# Altium footprint library EC_meter.PcbLib: 9 footprints
Each footprint in its own frame and in the unit in brackets; x right, y up, seen from the top. Pads: shape width x height; smd on the part's side, far side on the other; paste and mask are expansions set on the pad; w line width, h text height; cw(c..) or ccw(c..) is an arc to the next point about the centre after c.
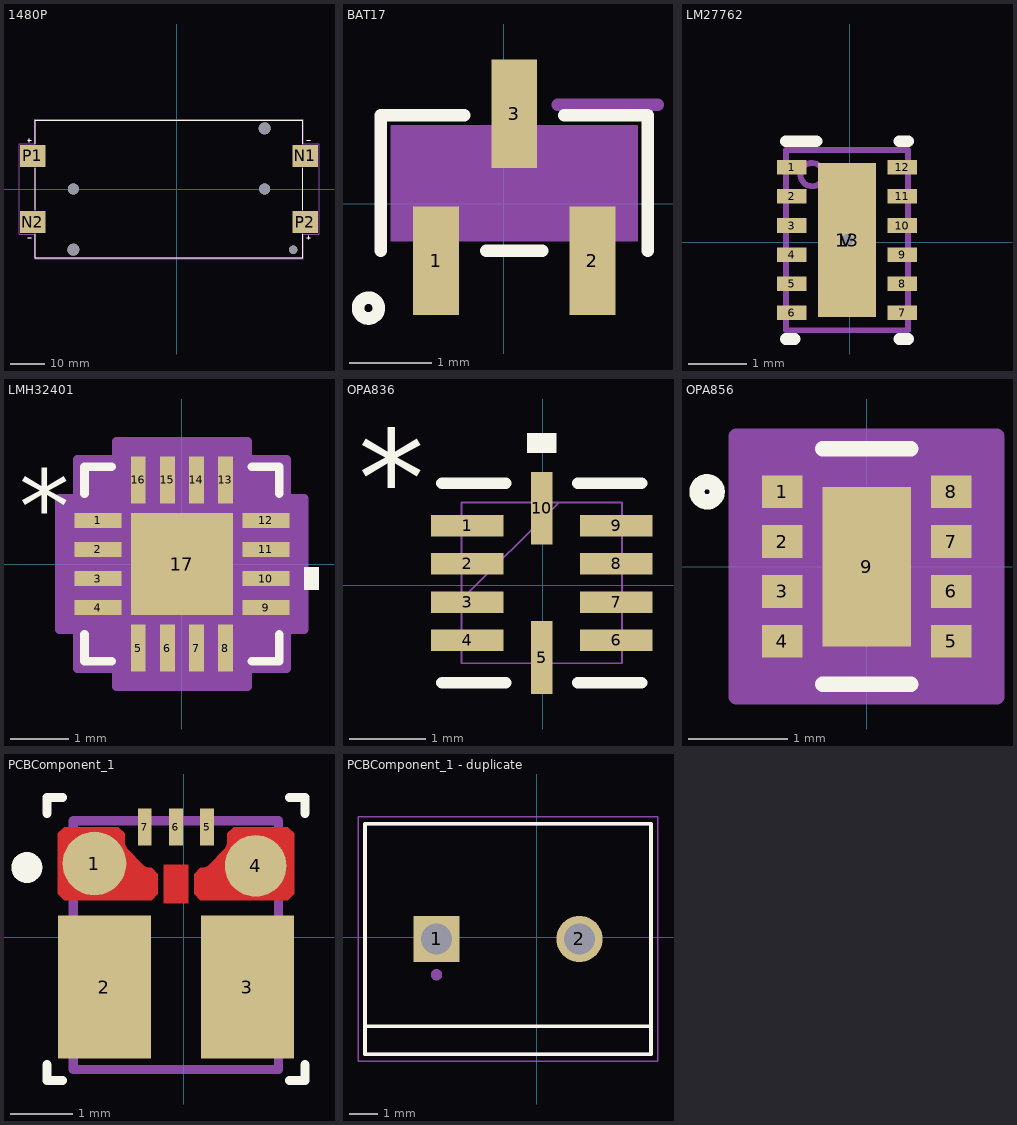
[diagram p0: the footprints below, top view; thin cyan lines are the x and y axes]

## 1480P [mm]
pads (9):
  rect 7.34x6.35 smd: N1(37.044,9.555) N2(-41.616,-9.555) P1(-41.616,9.555) P2(37.044,-9.555)
  round 3.45 hole 3.45 unplated: ""(-29.886,-17.505) ""(25.314,17.505)
  round 3.17 hole 3.17 unplated: ""(-29.886,0) ""(25.314,0)
  round 2.39 hole 2.39 unplated: ""(33.534,-17.505)
Top Overlay:
  lines w0.127: -43.036,-14 -42.036,-14 ; -43.036,14 -42.036,14 ; -42.536,13.5 -42.536,14.5 ; -40.816,-13.05 -40.816,-19.89 36.244,-19.89 36.244,-13.05 ; -40.816,-5.95 -40.816,5.95 ; -40.816,13.05 -40.816,19.89 36.244,19.89 36.244,13.05 ; 36.244,-5.95 36.244,5.95 ; 37.464,-14 38.464,-14 ; 37.464,14 38.464,14 ; 37.964,-14.5 37.964,-13.5
Mechanical 13:
  lines w0.127: -43.036,-14 -42.036,-14 ; -43.036,14 -42.036,14 ; -42.536,13.5 -42.536,14.5 ; 37.464,-14 38.464,-14 ; 37.464,14 38.464,14 ; 37.964,-14.5 37.964,-13.5 ; -40.816,-19.89 36.244,-19.89 36.244,19.89 -40.816,19.89 -40.816,-19.89
Mechanical 15:
  lines w0.05: -45.536,-13 -41.066,-13 -41.066,-20.14 36.494,-20.14 36.494,-13 40.964,-13 40.964,13 36.494,13 36.494,20.14 -41.066,20.14 -41.066,13 -45.536,13 -45.536,-13
3D body "step_temp.STEP": height 7.43, standoff -10.86, extent -45.288,-19.888 40.716,19.888

## BAT17 [mil]
pads (3):
  rect 22x52 smd paste+3.86 mask+4: 1(-32.5,-27.21) 2(42.5,-27.21) 3(5,43.36)
Top Overlay:
  circle w6: c-65,-50 r5
  lines w6: -59,-22.5 -59,42.5 -19.1,42.5 ; -8.4,-22.5 18.4,-22.5 ; 29.1,42.5 69,42.5 69,-22.5
Mechanical 13:
  circle w0: c-44,-7.5 r5
  lines w1: -54,-17.5 64,-17.5 64,37.5 -54,37.5 -54,-17.5 ; -42.5,-39.21 -42.5,-17.5 -22.5,-17.5 -22.5,-39.21 -42.5,-39.21 ; -5,37.5 15,37.5 15,59.21 -5,59.21 -5,37.5 ; 32.5,-39.21 32.5,-17.5 52.5,-17.5 52.5,-39.21 32.5,-39.21
Mechanical 15:
  region: 64,-17.5 -54,-17.5 -54,37.5 64,37.5
  lines w6: 26,47.5 74,47.5
3D body "SOT23_NEX.step": height 43.11, standoff 0, extent -58.03,-39.21 60,59.21

## LM27762 [mm]
pads (14):
  rect 0.5x0.25 smd paste+0 mask+0.051: 1(-0.994,1.287) 2(-0.994,0.787) 3(-0.994,0.287) 4(-0.994,-0.213) 5(-0.994,-0.713) 6(-0.994,-1.213) 7(0.906,-1.213) 8(0.906,-0.713) 9(0.906,-0.213) 10(0.906,0.287) 11(0.906,0.787) 12(0.906,1.287)
  rect 1x2.65 smd paste-0.5 mask+0.051: 13(-0.044,0.037)
  round 0.5 / inner round 1.524 / far side round 0.5 hole 0.203 paste-2539.97 mask+0.051: V(-0.044,0.037)
Top Overlay:
  lines w0.2: -1.094,-1.663 -0.944,-1.663 ; -1.094,1.737 -0.569,1.737 ; 0.856,-1.663 1.006,-1.663 ; 0.856,1.737 1.006,1.737
Top Paste:
  region: -0.517,0.179 -0.518,0.189 -0.518,1.253 -0.517,1.263 -0.514,1.273 -0.509,1.282 -0.503,1.29 -0.495,1.296 -0.486,1.301 -0.476,1.304 -0.466,1.305 0.379,1.305 0.389,1.304 0.399,1.301 0.408,1.296 0.415,1.29 0.422,1.282 0.427,1.273 0.43,1.263 0.431,1.253 0.431,0.189 0.43,0.179 0.427,0.169 0.422,0.16 0.415,0.152 0.408,0.146 0.399,0.141 0.389,0.138 0.379,0.137 -0.466,0.137 -0.476,0.138 -0.486,0.141 -0.495,0.146 -0.503,0.152 -0.509,0.16 -0.514,0.169
  region: -0.517,-1.189 -0.518,-1.179 -0.518,-0.115 -0.517,-0.105 -0.514,-0.095 -0.509,-0.086 -0.503,-0.078 -0.495,-0.072 -0.486,-0.067 -0.476,-0.064 -0.466,-0.063 0.379,-0.063 0.389,-0.064 0.399,-0.067 0.408,-0.072 0.415,-0.078 0.422,-0.086 0.427,-0.095 0.43,-0.105 0.431,-0.115 0.431,-1.179 0.43,-1.189 0.427,-1.199 0.422,-1.208 0.415,-1.216 0.408,-1.222 0.399,-1.227 0.389,-1.23 0.379,-1.231 -0.466,-1.231 -0.476,-1.23 -0.486,-1.227 -0.495,-1.222 -0.503,-1.216 -0.509,-1.208 -0.514,-1.199
Mechanical 13:
  circle w0.1: c-0.644,1.162 r0.2
  lines w0.1: -1.094,-1.513 -1.094,1.587 1.006,1.587 1.006,-1.513 -1.094,-1.513
3D body "LM27762DSST.STEP": height 0.8, standoff 0, extent -1.044,-1.463 0.956,1.537

## LMH32401 [mil]
pads (17):
  rect 32x10 smd paste+0 mask+0: 1(-57,29.54) 2(-57,9.85) 3(-57,-9.85) 4(-57,-29.54) 9(57,-29.54) 10(57,-9.85) 11(57,9.85) 12(57,29.54)
  rect 10x32 smd paste+0 mask+0: 5(-29.54,-57) 6(-9.85,-57) 7(9.85,-57) 8(29.54,-57) 13(29.54,57) 14(9.85,57) 15(-9.85,57) 16(-29.54,57)
  rect 69x69 smd paste+0 mask+0: 17(0,0)
Top Overlay:
  region: 83,-2.35 93,-2.35 93,-17.34 83,-17.34
  lines w6: -66,-47.63 -66,-66 -47.63,-66 ; -66,47.63 -66,66 -47.63,66 ; 47.63,-66 66,-66 66,-47.63 ; 47.63,66 66,66 66,47.63
  text "*" at -110.5,14.38 h50
Mechanical 13:
  lines w1: -61,11 -11,61 ; -61,-61 -61,61 61,61 61,-61 -61,-61 ; -61,-35.53 -61,-23.54 -61,-35.53 ; -61,-15.85 -61,-3.85 -61,-15.85 ; -61,3.85 -61,15.85 -61,3.85 ; -61,23.54 -61,35.53 -61,23.54 ; -35.53,-61 -23.54,-61 -35.53,-61 ; -35.53,61 -23.54,61 -35.53,61 ; -15.85,-61 -3.85,-61 -15.85,-61 ; -15.85,61 -3.85,61 -15.85,61 ; 3.85,-61 15.85,-61 3.85,-61 ; 3.85,61 15.85,61 3.85,61 ; 23.54,-61 35.53,-61 23.54,-61 ; 23.54,61 35.53,61 23.54,61 ; 61,-35.53 61,-23.54 61,-35.53 ; 61,-15.85 61,-3.85 61,-15.85 ; 61,3.85 61,15.85 61,3.85 ; 61,23.54 61,35.53 61,23.54
  text "*" at -53.5,14.38 h50
Mechanical 15:
  region: -44.53,-71 -71,-71 -71,-44.53 -83,-44.53 -83,44.53 -71,44.53 -71,71 -44.53,71 -44.53,83 44.53,83 44.53,71 71,71 71,44.53 83,44.53 83,-44.53 71,-44.53 71,-71 44.53,-71 44.53,-83 -44.53,-83
  lines w6: -83,-44.53 -83,44.53 -71,44.53 -71,71 -44.53,71 -44.53,83 44.53,83 44.53,71 71,71 71,44.53 83,44.53 83,-44.53 71,-44.53 71,-71 44.53,-71 44.53,-83 -44.53,-83 -44.53,-71 -71,-71 -71,-44.53 -83,-44.53
3D body "VQFN16_RGT_TEX.step": height 39.09, standoff 0, extent -60.98,-60.98 60.98,60.98

## OPA836 [mm]
pads (10):
  rect 0.95x0.28 smd paste-0.14 mask-0.47: 1(-0.986,0.782) 2(-0.986,0.282) 3(-0.986,-0.218) 4(-0.986,-0.718) 6(0.964,-0.718) 7(0.964,-0.218) 8(0.964,0.282) 9(0.964,0.782)
  rect 0.28x0.95 smd paste-0.14 mask-0.47: 5(-0.011,-0.943) 10(-0.011,1.007)
Top Overlay:
  region: 0.18,1.736 -0.201,1.736 -0.201,1.99 0.18,1.99
  lines w0.152: -1.315,-1.272 -0.484,-1.272 ; -1.315,1.336 -0.484,1.336 ; 0.462,-1.272 1.293,-1.272 ; 0.462,1.336 1.293,1.336
  text "*" at -2.413,0.778 h1.27
Top Paste:
  region: 0.104,1.457 -0.126,1.457 -0.126,0.557 0.104,0.557
  region: 1.414,0.897 0.514,0.897 0.514,0.667 1.414,0.667
  region: 1.414,0.397 0.514,0.397 0.514,0.167 1.414,0.167
  region: 1.414,-0.103 0.514,-0.103 0.514,-0.333 1.414,-0.333
  region: 1.414,-0.603 0.514,-0.603 0.514,-0.833 1.414,-0.833
  region: 0.104,-0.493 -0.126,-0.493 -0.126,-1.393 0.104,-1.393
  region: -0.536,-0.603 -1.436,-0.603 -1.436,-0.833 -0.536,-0.833
  region: -0.536,-0.103 -1.436,-0.103 -1.436,-0.333 -0.536,-0.333
  region: -0.536,0.397 -1.436,0.397 -1.436,0.167 -0.536,0.167
  region: -0.536,0.897 -1.436,0.897 -1.436,0.667 -0.536,0.667
Top Solder:
  region: 0.199,1.552 -0.221,1.552 -0.221,0.462 0.199,0.462
  region: 1.509,0.992 0.419,0.992 0.419,0.572 1.509,0.572
  region: 1.509,0.492 0.419,0.492 0.419,0.072 1.509,0.072
  region: 1.509,-0.008 0.419,-0.008 0.419,-0.428 1.509,-0.428
  region: 1.509,-0.508 0.419,-0.508 0.419,-0.928 1.509,-0.928
  region: 0.199,-0.398 -0.221,-0.398 -0.221,-1.488 0.199,-1.488
  region: -0.441,-0.508 -1.531,-0.508 -1.531,-0.928 -0.441,-0.928
  region: -0.441,-0.008 -1.531,-0.008 -1.531,-0.428 -0.441,-0.428
  region: -0.441,0.492 -1.531,0.492 -1.531,0.072 -0.441,0.072
  region: -0.441,0.992 -1.531,0.992 -1.531,0.572 -0.441,0.572
Mechanical 13:
  lines w0.025: -1.061,-0.188 0.209,1.082 ; -1.061,-1.018 -1.061,1.082 1.039,1.082 1.039,-1.018 -1.061,-1.018 ; -1.061,-0.868 -1.061,-0.568 -1.061,-0.868 ; -1.061,-0.368 -1.061,-0.068 -1.061,-0.368 ; -1.061,0.132 -1.061,0.432 -1.061,0.132 ; -1.061,0.632 -1.061,0.932 -1.061,0.632 ; -0.161,-1.018 0.139,-1.018 -0.161,-1.018 ; -0.161,1.082 0.139,1.082 -0.161,1.082 ; 1.039,-0.868 1.039,-0.568 1.039,-0.868 ; 1.039,-0.368 1.039,-0.068 1.039,-0.368 ; 1.039,0.132 1.039,0.432 1.039,0.132 ; 1.039,0.632 1.039,0.932 1.039,0.632
  text "*" at -2.413,0.778 h1.27
3D body "RUN10.step": height 0.6, standoff 0, extent -1.112,-1.069 1.09,1.133

## OPA856 [mil]
pads (9):
  rect 16x13 smd paste+0 mask+0: 1(-33.34,29.53) 2(-33.34,9.84) 3(-33.34,-9.84) 4(-33.34,-29.53) 5(33.34,-29.53) 6(33.34,-9.84) 7(33.34,9.84) 8(33.34,29.53)
  rect 35x63 smd paste+0 mask+0: 9(0,0)
Top Overlay:
  circle w6: c-63.02,29.53 r4
  lines w6: -17.47,-46.5 17.47,-46.5 ; -17.47,46.5 17.47,46.5
Mechanical 13:
  circle w0: c-25.34,29.53 r3
  lines w0: -12,41.5 ccw(c0,41.5) 12,41.5
  lines w1: -41.5,-41.5 41.5,-41.5 41.5,41.5 -41.5,41.5 -41.5,-41.5
Mechanical 15:
  region: -51.5,-46.03 -51.5,46.03 -51.5,51.5 51.5,51.5 51.5,46.03 51.5,-46.03 51.5,-51.5 -51.5,-51.5
  lines w6: -51.5,-51.5 -51.5,-46.03 -51.5,46.03 -51.5,51.5 51.5,51.5 51.5,46.03 51.5,-46.03 51.5,-51.5 -51.5,-51.5
3D body "OPA856IDSGR_TEX.step": height 32.09, standoff 0, extent -41.5,-41.5 41.5,41.5

## PCBComponent_1 [mm]
pads (7):
  round 1.025 smd paste-0.5 mask-0.495: 1(-1.439,1.185)
  rect 1.5x2.3 smd paste-1.137 mask-1.143: 2(-1.277,-0.802) 3(1.023,-0.802)
  round 0.991 smd paste-0.483 mask-0.483: 4(1.154,1.149)
  rect 0.22x0.6 smd paste+0 mask-0.292: 5(0.373,1.773) 6(-0.127,1.773) 7(-0.627,1.773)
Top Layer:
  region: -2.027,0.698 -2.027,1.673 -1.927,1.773 -1.052,1.773 -0.952,1.673 -0.952,1.507 -0.923,1.436 -0.634,1.147 -0.563,1.118 -0.517,1.118 -0.417,1.018 -0.417,0.698 -0.517,0.598 -1.927,0.598
  region: -0.327,1.168 -0.327,0.548 0.073,0.548 0.073,1.168
  region: 1.773,0.698 1.773,1.673 1.673,1.773 0.798,1.773 0.698,1.673 0.698,1.507 0.669,1.436 0.38,1.147 0.309,1.118 0.263,1.118 0.163,1.018 0.163,0.698 0.263,0.598 1.673,0.598
Top Overlay:
  circle w0.25: c-2.527,1.123 r0.125
  lines w0.15: -2.202,-2.052 -2.202,-2.302 -1.952,-2.302 ; -2.202,1.998 -2.202,2.248 -1.952,2.248 ; 1.698,-2.302 1.948,-2.302 1.948,-2.052 ; 1.698,2.248 1.948,2.248 1.948,1.998
Top Paste:
  drawing of 8 lines, arcs and shapes, not listed
Top Solder:
  drawing of 7 lines, arcs and shapes, not listed
Mechanical 13:
  lines w0.15: -1.777,-2.127 1.523,-2.127 1.523,1.873 -1.777,1.873 -1.777,-2.127
3D body "TPSM863252RDXR--3DModel-STEP-740395.STEP": height 2.1, standoff 0, extent -1.777,-2.127 1.523,1.873

## PCBComponent_1 - duplicate [mm]
pads (2):
  rect 1.65x1.65 / inner round 1.65 / far side rect 1.65x1.65 hole 1.1: 1(-3.563,-0.061)
  round 1.65 hole 1.1: 2(1.517,-0.061)
Top Overlay:
  lines w0.127: -6.103,-3.161 -6.103,-4.161 4.057,-4.161 4.057,-3.161 ; -6.103,-3.161 -6.103,4.039 4.057,4.039 4.057,-3.161 ; -6.103,-3.161 4.057,-3.161
Mechanical 13:
  circle w0.2: c-3.563,-1.331 r0.1
  lines w0.127: -6.103,-4.161 4.057,-4.161 4.057,4.039 -6.103,4.039 -6.103,-4.161
Mechanical 15:
  lines w0.05: -6.353,-4.411 4.307,-4.411 4.307,4.289 -6.353,4.289 -6.353,-4.411
3D body "step_temp.STEP": height 10, standoff -3.5, extent -6.703,-4.161 4.057,4.039

## text [mil]